# Altium schematic symbol library WRIS-RSKS.SchLib: 516 symbols (part 7 of 10)
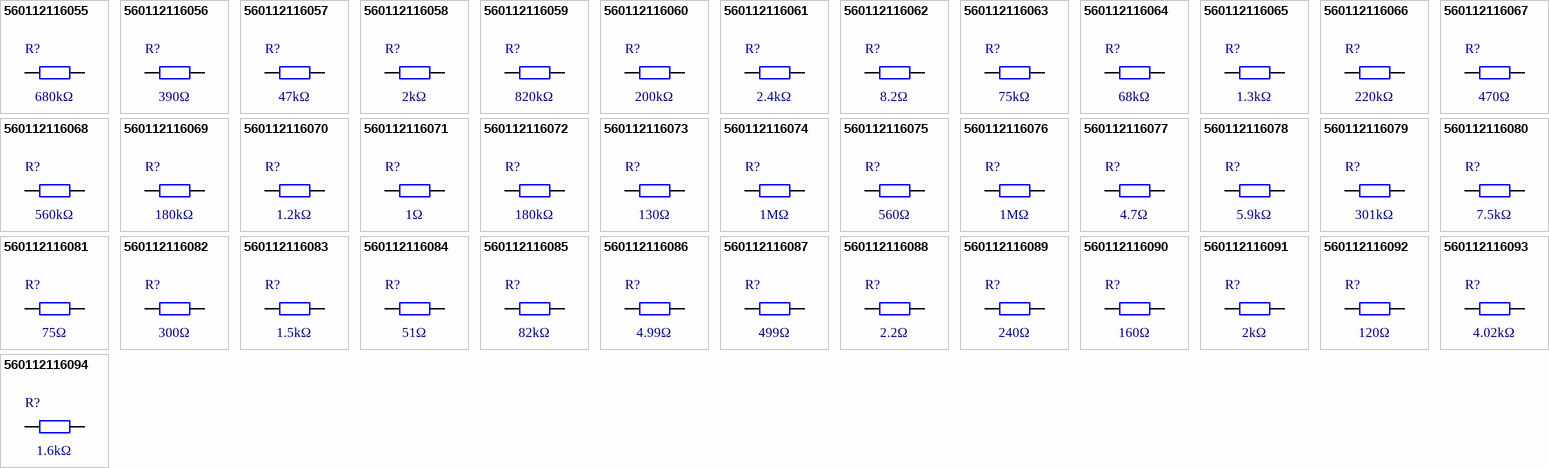
[diagram p18: symbols 560112116055 to 560112116094]

## 560112116063
designator R?, comment 75kΩ
WRIS-RSKS Thick Film Resistor, size 0603, 75kΩ, +/-1%, 100mW; Manufacturer Part Number: 560112116063; Manufacturer: Wurth Elektronik; Case/Size Code: 0603; Limiting Element Voltage: 75V; Temperature Coefficient of Resistance Min: -100ppm/°C; Temperature Coefficient of Resistance Max: 100ppm/°C; Category: Thick Film Resistors; Match Code: WRIS-RSKS; ComponentLink1Description: Website Link; ComponentLink1URL: https://www.we-online.com/redexpert/article/560112116063?ad; ComponentLink2Description: Datasheet Link; ComponentLink2URL: https://www.we-online.com/redexpert/spec/560112116063?ad; Mount: Surface Mount; Min Operating Temperature: -55°C; Max Operating Temperature: 155°C; Packaging: Tape and Reel; Length: 1.6mm; Width: 0.8mm; Height: 0.45mm; Rated Power: 100mW; Resistance: 75kΩ; Resistance Tolerance: +/-1%
footprint WRIS-RSKS_0603_Reflow
footprint WRIS-RSKS_0603_Wave
pins: 1, 2

## 560112116064
designator R?, comment 68kΩ
WRIS-RSKS Thick Film Resistor, size 0603, 68kΩ, +/-1%, 100mW; Manufacturer Part Number: 560112116064; Manufacturer: Wurth Elektronik; Case/Size Code: 0603; Limiting Element Voltage: 75V; Temperature Coefficient of Resistance Min: -100ppm/°C; Temperature Coefficient of Resistance Max: 100ppm/°C; Category: Thick Film Resistors; Match Code: WRIS-RSKS; ComponentLink1Description: Website Link; ComponentLink1URL: https://www.we-online.com/redexpert/article/560112116064?ad; ComponentLink2Description: Datasheet Link; ComponentLink2URL: https://www.we-online.com/redexpert/spec/560112116064?ad; Mount: Surface Mount; Min Operating Temperature: -55°C; Max Operating Temperature: 155°C; Packaging: Tape and Reel; Length: 1.6mm; Width: 0.8mm; Height: 0.45mm; Rated Power: 100mW; Resistance: 68kΩ; Resistance Tolerance: +/-1%
footprint WRIS-RSKS_0603_Reflow
footprint WRIS-RSKS_0603_Wave
pins: 1, 2

## 560112116065
designator R?, comment 1.3kΩ
WRIS-RSKS Thick Film Resistor, size 0603, 1.3kΩ, +/-1%, 100mW; Manufacturer Part Number: 560112116065; Manufacturer: Wurth Elektronik; Case/Size Code: 0603; Limiting Element Voltage: 75V; Temperature Coefficient of Resistance Min: -100ppm/°C; Temperature Coefficient of Resistance Max: 100ppm/°C; Category: Thick Film Resistors; Match Code: WRIS-RSKS; ComponentLink1Description: Website Link; ComponentLink1URL: https://www.we-online.com/redexpert/article/560112116065?ad; ComponentLink2Description: Datasheet Link; ComponentLink2URL: https://www.we-online.com/redexpert/spec/560112116065?ad; Mount: Surface Mount; Min Operating Temperature: -55°C; Max Operating Temperature: 155°C; Packaging: Tape and Reel; Length: 1.6mm; Width: 0.8mm; Height: 0.45mm; Rated Power: 100mW; Resistance: 1.3kΩ; Resistance Tolerance: +/-1%
footprint WRIS-RSKS_0603_Reflow
footprint WRIS-RSKS_0603_Wave
pins: 1, 2

## 560112116066
designator R?, comment 220kΩ
WRIS-RSKS Thick Film Resistor, size 0603, 220kΩ, +/-1%, 100mW; Manufacturer Part Number: 560112116066; Manufacturer: Wurth Elektronik; Case/Size Code: 0603; Limiting Element Voltage: 75V; Temperature Coefficient of Resistance Min: -100ppm/°C; Temperature Coefficient of Resistance Max: 100ppm/°C; Category: Thick Film Resistors; Match Code: WRIS-RSKS; ComponentLink1Description: Website Link; ComponentLink1URL: https://www.we-online.com/redexpert/article/560112116066?ad; ComponentLink2Description: Datasheet Link; ComponentLink2URL: https://www.we-online.com/redexpert/spec/560112116066?ad; Mount: Surface Mount; Min Operating Temperature: -55°C; Max Operating Temperature: 155°C; Packaging: Tape and Reel; Length: 1.6mm; Width: 0.8mm; Height: 0.45mm; Rated Power: 100mW; Resistance: 220kΩ; Resistance Tolerance: +/-1%
footprint WRIS-RSKS_0603_Reflow
footprint WRIS-RSKS_0603_Wave
pins: 1, 2

## 560112116067
designator R?, comment 470Ω
WRIS-RSKS Thick Film Resistor, size 0603, 470Ω, +/-1%, 100mW; Manufacturer Part Number: 560112116067; Manufacturer: Wurth Elektronik; Case/Size Code: 0603; Limiting Element Voltage: 75V; Temperature Coefficient of Resistance Min: -100ppm/°C; Temperature Coefficient of Resistance Max: 100ppm/°C; Category: Thick Film Resistors; Match Code: WRIS-RSKS; ComponentLink1Description: Website Link; ComponentLink1URL: https://www.we-online.com/redexpert/article/560112116067?ad; ComponentLink2Description: Datasheet Link; ComponentLink2URL: https://www.we-online.com/redexpert/spec/560112116067?ad; Mount: Surface Mount; Min Operating Temperature: -55°C; Max Operating Temperature: 155°C; Packaging: Tape and Reel; Length: 1.6mm; Width: 0.8mm; Height: 0.45mm; Rated Power: 100mW; Resistance: 470Ω; Resistance Tolerance: +/-1%
footprint WRIS-RSKS_0603_Reflow
footprint WRIS-RSKS_0603_Wave
pins: 1, 2

## 560112116068
designator R?, comment 560kΩ
WRIS-RSKS Thick Film Resistor, size 0603, 560kΩ, +/-1%, 100mW; Manufacturer Part Number: 560112116068; Manufacturer: Wurth Elektronik; Case/Size Code: 0603; Limiting Element Voltage: 75V; Temperature Coefficient of Resistance Min: -100ppm/°C; Temperature Coefficient of Resistance Max: 100ppm/°C; Category: Thick Film Resistors; Match Code: WRIS-RSKS; ComponentLink1Description: Website Link; ComponentLink1URL: https://www.we-online.com/redexpert/article/560112116068?ad; ComponentLink2Description: Datasheet Link; ComponentLink2URL: https://www.we-online.com/redexpert/spec/560112116068?ad; Mount: Surface Mount; Min Operating Temperature: -55°C; Max Operating Temperature: 155°C; Packaging: Tape and Reel; Length: 1.6mm; Width: 0.8mm; Height: 0.45mm; Rated Power: 100mW; Resistance: 560kΩ; Resistance Tolerance: +/-1%
footprint WRIS-RSKS_0603_Reflow
footprint WRIS-RSKS_0603_Wave
pins: 1, 2

## 560112116069
designator R?, comment 180kΩ
WRIS-RSKS Thick Film Resistor, size 0603, 180kΩ, +/-5%, 100mW; Manufacturer Part Number: 560112116069; Manufacturer: Wurth Elektronik; Case/Size Code: 0603; Limiting Element Voltage: 75V; Temperature Coefficient of Resistance Min: -100ppm/°C; Temperature Coefficient of Resistance Max: 100ppm/°C; Category: Thick Film Resistors; Match Code: WRIS-RSKS; ComponentLink1Description: Website Link; ComponentLink1URL: https://www.we-online.com/redexpert/article/560112116069?ad; ComponentLink2Description: Datasheet Link; ComponentLink2URL: https://www.we-online.com/redexpert/spec/560112116069?ad; Mount: Surface Mount; Min Operating Temperature: -55°C; Max Operating Temperature: 155°C; Packaging: Tape and Reel; Length: 1.6mm; Width: 0.8mm; Height: 0.45mm; Rated Power: 100mW; Resistance: 180kΩ; Resistance Tolerance: +/-5%
footprint WRIS-RSKS_0603_Reflow
footprint WRIS-RSKS_0603_Wave
pins: 1, 2

## 560112116070
designator R?, comment 1.2kΩ
WRIS-RSKS Thick Film Resistor, size 0603, 1.2kΩ, +/-1%, 100mW; Manufacturer Part Number: 560112116070; Manufacturer: Wurth Elektronik; Case/Size Code: 0603; Limiting Element Voltage: 75V; Temperature Coefficient of Resistance Min: -100ppm/°C; Temperature Coefficient of Resistance Max: 100ppm/°C; Category: Thick Film Resistors; Match Code: WRIS-RSKS; ComponentLink1Description: Website Link; ComponentLink1URL: https://www.we-online.com/redexpert/article/560112116070?ad; ComponentLink2Description: Datasheet Link; ComponentLink2URL: https://www.we-online.com/redexpert/spec/560112116070?ad; Mount: Surface Mount; Min Operating Temperature: -55°C; Max Operating Temperature: 155°C; Packaging: Tape and Reel; Length: 1.6mm; Width: 0.8mm; Height: 0.45mm; Rated Power: 100mW; Resistance: 1.2kΩ; Resistance Tolerance: +/-1%
footprint WRIS-RSKS_0603_Reflow
footprint WRIS-RSKS_0603_Wave
pins: 1, 2

## 560112116071
designator R?, comment 1Ω
WRIS-RSKS Thick Film Resistor, size 0603, 1Ω, +/-1%, 100mW; Manufacturer Part Number: 560112116071; Manufacturer: Wurth Elektronik; Case/Size Code: 0603; Limiting Element Voltage: 75V; Temperature Coefficient of Resistance Min: -200ppm/°C; Temperature Coefficient of Resistance Max: 400ppm/°C; Category: Thick Film Resistors; Match Code: WRIS-RSKS; ComponentLink1Description: Website Link; ComponentLink1URL: https://www.we-online.com/redexpert/article/560112116071?ad; ComponentLink2Description: Datasheet Link; ComponentLink2URL: https://www.we-online.com/redexpert/spec/560112116071?ad; Mount: Surface Mount; Min Operating Temperature: -55°C; Max Operating Temperature: 155°C; Packaging: Tape and Reel; Length: 1.6mm; Width: 0.8mm; Height: 0.45mm; Rated Power: 100mW; Resistance: 1Ω; Resistance Tolerance: +/-1%
footprint WRIS-RSKS_0603_Reflow
footprint WRIS-RSKS_0603_Wave
pins: 1, 2

## 560112116072
designator R?, comment 180kΩ
WRIS-RSKS Thick Film Resistor, size 0603, 180kΩ, +/-1%, 100mW; Manufacturer Part Number: 560112116072; Manufacturer: Wurth Elektronik; Case/Size Code: 0603; Limiting Element Voltage: 75V; Temperature Coefficient of Resistance Min: -100ppm/°C; Temperature Coefficient of Resistance Max: 100ppm/°C; Category: Thick Film Resistors; Match Code: WRIS-RSKS; ComponentLink1Description: Website Link; ComponentLink1URL: https://www.we-online.com/redexpert/article/560112116072?ad; ComponentLink2Description: Datasheet Link; ComponentLink2URL: https://www.we-online.com/redexpert/spec/560112116072?ad; Mount: Surface Mount; Min Operating Temperature: -55°C; Max Operating Temperature: 155°C; Packaging: Tape and Reel; Length: 1.6mm; Width: 0.8mm; Height: 0.45mm; Rated Power: 100mW; Resistance: 180kΩ; Resistance Tolerance: +/-1%
footprint WRIS-RSKS_0603_Reflow
footprint WRIS-RSKS_0603_Wave
pins: 1, 2

## 560112116073
designator R?, comment 130Ω
WRIS-RSKS Thick Film Resistor, size 0603, 130Ω, +/-1%, 100mW; Manufacturer Part Number: 560112116073; Manufacturer: Wurth Elektronik; Case/Size Code: 0603; Limiting Element Voltage: 75V; Temperature Coefficient of Resistance Min: -100ppm/°C; Temperature Coefficient of Resistance Max: 100ppm/°C; Category: Thick Film Resistors; Match Code: WRIS-RSKS; ComponentLink1Description: Website Link; ComponentLink1URL: https://www.we-online.com/redexpert/article/560112116073?ad; ComponentLink2Description: Datasheet Link; ComponentLink2URL: https://www.we-online.com/redexpert/spec/560112116073?ad; Mount: Surface Mount; Min Operating Temperature: -55°C; Max Operating Temperature: 155°C; Packaging: Tape and Reel; Length: 1.6mm; Width: 0.8mm; Height: 0.45mm; Rated Power: 100mW; Resistance: 130Ω; Resistance Tolerance: +/-1%
footprint WRIS-RSKS_0603_Reflow
footprint WRIS-RSKS_0603_Wave
pins: 1, 2

## 560112116074
designator R?, comment 1MΩ
WRIS-RSKS Thick Film Resistor, size 0603, 1MΩ, +/-1%, 100mW; Manufacturer Part Number: 560112116074; Manufacturer: Wurth Elektronik; Case/Size Code: 0603; Limiting Element Voltage: 75V; Temperature Coefficient of Resistance Min: -100ppm/°C; Temperature Coefficient of Resistance Max: 100ppm/°C; Category: Thick Film Resistors; Match Code: WRIS-RSKS; ComponentLink1Description: Website Link; ComponentLink1URL: https://www.we-online.com/redexpert/article/560112116074?ad; ComponentLink2Description: Datasheet Link; ComponentLink2URL: https://www.we-online.com/redexpert/spec/560112116074?ad; Mount: Surface Mount; Min Operating Temperature: -55°C; Max Operating Temperature: 155°C; Packaging: Tape and Reel; Length: 1.6mm; Width: 0.8mm; Height: 0.45mm; Rated Power: 100mW; Resistance: 1MΩ; Resistance Tolerance: +/-1%
footprint WRIS-RSKS_0603_Reflow
footprint WRIS-RSKS_0603_Wave
pins: 1, 2

## 560112116075
designator R?, comment 560Ω
WRIS-RSKS Thick Film Resistor, size 0603, 560Ω, +/-5%, 100mW; Manufacturer Part Number: 560112116075; Manufacturer: Wurth Elektronik; Case/Size Code: 0603; Limiting Element Voltage: 75V; Temperature Coefficient of Resistance Min: -100ppm/°C; Temperature Coefficient of Resistance Max: 100ppm/°C; Category: Thick Film Resistors; Match Code: WRIS-RSKS; ComponentLink1Description: Website Link; ComponentLink1URL: https://www.we-online.com/redexpert/article/560112116075?ad; ComponentLink2Description: Datasheet Link; ComponentLink2URL: https://www.we-online.com/redexpert/spec/560112116075?ad; Mount: Surface Mount; Min Operating Temperature: -55°C; Max Operating Temperature: 155°C; Packaging: Tape and Reel; Length: 1.6mm; Width: 0.8mm; Height: 0.45mm; Rated Power: 100mW; Resistance: 560Ω; Resistance Tolerance: +/-5%
footprint WRIS-RSKS_0603_Reflow
footprint WRIS-RSKS_0603_Wave
pins: 1, 2

## 560112116076
designator R?, comment 1MΩ
WRIS-RSKS Thick Film Resistor, size 0603, 1MΩ, +/-5%, 100mW; Manufacturer Part Number: 560112116076; Manufacturer: Wurth Elektronik; Case/Size Code: 0603; Limiting Element Voltage: 75V; Temperature Coefficient of Resistance Min: -100ppm/°C; Temperature Coefficient of Resistance Max: 100ppm/°C; Category: Thick Film Resistors; Match Code: WRIS-RSKS; ComponentLink1Description: Website Link; ComponentLink1URL: https://www.we-online.com/redexpert/article/560112116076?ad; ComponentLink2Description: Datasheet Link; ComponentLink2URL: https://www.we-online.com/redexpert/spec/560112116076?ad; Mount: Surface Mount; Min Operating Temperature: -55°C; Max Operating Temperature: 155°C; Packaging: Tape and Reel; Length: 1.6mm; Width: 0.8mm; Height: 0.45mm; Rated Power: 100mW; Resistance: 1MΩ; Resistance Tolerance: +/-5%
footprint WRIS-RSKS_0603_Reflow
footprint WRIS-RSKS_0603_Wave
pins: 1, 2

## 560112116077
designator R?, comment 4.7Ω
WRIS-RSKS Thick Film Resistor, size 0603, 4.7Ω, +/-5%, 100mW; Manufacturer Part Number: 560112116077; Manufacturer: Wurth Elektronik; Case/Size Code: 0603; Limiting Element Voltage: 75V; Temperature Coefficient of Resistance Min: -200ppm/°C; Temperature Coefficient of Resistance Max: 400ppm/°C; Category: Thick Film Resistors; Match Code: WRIS-RSKS; ComponentLink1Description: Website Link; ComponentLink1URL: https://www.we-online.com/redexpert/article/560112116077?ad; ComponentLink2Description: Datasheet Link; ComponentLink2URL: https://www.we-online.com/redexpert/spec/560112116077?ad; Mount: Surface Mount; Min Operating Temperature: -55°C; Max Operating Temperature: 155°C; Packaging: Tape and Reel; Length: 1.6mm; Width: 0.8mm; Height: 0.45mm; Rated Power: 100mW; Resistance: 4.7Ω; Resistance Tolerance: +/-5%
footprint WRIS-RSKS_0603_Reflow
footprint WRIS-RSKS_0603_Wave
pins: 1, 2

## 560112116078
designator R?, comment 5.9kΩ
WRIS-RSKS Thick Film Resistor, size 0603, 5.9kΩ, +/-1%, 100mW; Manufacturer Part Number: 560112116078; Manufacturer: Wurth Elektronik; Case/Size Code: 0603; Limiting Element Voltage: 75V; Temperature Coefficient of Resistance Min: -100ppm/°C; Temperature Coefficient of Resistance Max: 100ppm/°C; Category: Thick Film Resistors; Match Code: WRIS-RSKS; ComponentLink1Description: Website Link; ComponentLink1URL: https://www.we-online.com/redexpert/article/560112116078?ad; ComponentLink2Description: Datasheet Link; ComponentLink2URL: https://www.we-online.com/redexpert/spec/560112116078?ad; Mount: Surface Mount; Min Operating Temperature: -55°C; Max Operating Temperature: 155°C; Packaging: Tape and Reel; Length: 1.6mm; Width: 0.8mm; Height: 0.45mm; Rated Power: 100mW; Resistance: 5.9kΩ; Resistance Tolerance: +/-1%
footprint WRIS-RSKS_0603_Reflow
footprint WRIS-RSKS_0603_Wave
pins: 1, 2

## 560112116079
designator R?, comment 301kΩ
WRIS-RSKS Thick Film Resistor, size 0603, 301kΩ, +/-1%, 100mW; Manufacturer Part Number: 560112116079; Manufacturer: Wurth Elektronik; Case/Size Code: 0603; Limiting Element Voltage: 75V; Temperature Coefficient of Resistance Min: -100ppm/°C; Temperature Coefficient of Resistance Max: 100ppm/°C; Category: Thick Film Resistors; Match Code: WRIS-RSKS; ComponentLink1Description: Website Link; ComponentLink1URL: https://www.we-online.com/redexpert/article/560112116079?ad; ComponentLink2Description: Datasheet Link; ComponentLink2URL: https://www.we-online.com/redexpert/spec/560112116079?ad; Mount: Surface Mount; Min Operating Temperature: -55°C; Max Operating Temperature: 155°C; Packaging: Tape and Reel; Length: 1.6mm; Width: 0.8mm; Height: 0.45mm; Rated Power: 100mW; Resistance: 301kΩ; Resistance Tolerance: +/-1%
footprint WRIS-RSKS_0603_Reflow
footprint WRIS-RSKS_0603_Wave
pins: 1, 2

## 560112116080
designator R?, comment 7.5kΩ
WRIS-RSKS Thick Film Resistor, size 0603, 7.5kΩ, +/-1%, 100mW; Manufacturer Part Number: 560112116080; Manufacturer: Wurth Elektronik; Case/Size Code: 0603; Limiting Element Voltage: 75V; Temperature Coefficient of Resistance Min: -100ppm/°C; Temperature Coefficient of Resistance Max: 100ppm/°C; Category: Thick Film Resistors; Match Code: WRIS-RSKS; ComponentLink1Description: Website Link; ComponentLink1URL: https://www.we-online.com/redexpert/article/560112116080?ad; ComponentLink2Description: Datasheet Link; ComponentLink2URL: https://www.we-online.com/redexpert/spec/560112116080?ad; Mount: Surface Mount; Min Operating Temperature: -55°C; Max Operating Temperature: 155°C; Packaging: Tape and Reel; Length: 1.6mm; Width: 0.8mm; Height: 0.45mm; Rated Power: 100mW; Resistance: 7.5kΩ; Resistance Tolerance: +/-1%
footprint WRIS-RSKS_0603_Reflow
footprint WRIS-RSKS_0603_Wave
pins: 1, 2

## 560112116081
designator R?, comment 75Ω
WRIS-RSKS Thick Film Resistor, size 0603, 75Ω, +/-5%, 100mW; Manufacturer Part Number: 560112116081; Manufacturer: Wurth Elektronik; Case/Size Code: 0603; Limiting Element Voltage: 75V; Temperature Coefficient of Resistance Min: -100ppm/°C; Temperature Coefficient of Resistance Max: 100ppm/°C; Category: Thick Film Resistors; Match Code: WRIS-RSKS; ComponentLink1Description: Website Link; ComponentLink1URL: https://www.we-online.com/redexpert/article/560112116081?ad; ComponentLink2Description: Datasheet Link; ComponentLink2URL: https://www.we-online.com/redexpert/spec/560112116081?ad; Mount: Surface Mount; Min Operating Temperature: -55°C; Max Operating Temperature: 155°C; Packaging: Tape and Reel; Length: 1.6mm; Width: 0.8mm; Height: 0.45mm; Rated Power: 100mW; Resistance: 75Ω; Resistance Tolerance: +/-5%
footprint WRIS-RSKS_0603_Reflow
footprint WRIS-RSKS_0603_Wave
pins: 1, 2

## 560112116082
designator R?, comment 300Ω
WRIS-RSKS Thick Film Resistor, size 0603, 300Ω, +/-5%, 100mW; Manufacturer Part Number: 560112116082; Manufacturer: Wurth Elektronik; Case/Size Code: 0603; Limiting Element Voltage: 75V; Temperature Coefficient of Resistance Min: -100ppm/°C; Temperature Coefficient of Resistance Max: 100ppm/°C; Category: Thick Film Resistors; Match Code: WRIS-RSKS; ComponentLink1Description: Website Link; ComponentLink1URL: https://www.we-online.com/redexpert/article/560112116082?ad; ComponentLink2Description: Datasheet Link; ComponentLink2URL: https://www.we-online.com/redexpert/spec/560112116082?ad; Mount: Surface Mount; Min Operating Temperature: -55°C; Max Operating Temperature: 155°C; Packaging: Tape and Reel; Length: 1.6mm; Width: 0.8mm; Height: 0.45mm; Rated Power: 100mW; Resistance: 300Ω; Resistance Tolerance: +/-5%
footprint WRIS-RSKS_0603_Reflow
footprint WRIS-RSKS_0603_Wave
pins: 1, 2

## 560112116083
designator R?, comment 1.5kΩ
WRIS-RSKS Thick Film Resistor, size 0603, 1.5kΩ, +/-5%, 100mW; Manufacturer Part Number: 560112116083; Manufacturer: Wurth Elektronik; Case/Size Code: 0603; Limiting Element Voltage: 75V; Temperature Coefficient of Resistance Min: -100ppm/°C; Temperature Coefficient of Resistance Max: 100ppm/°C; Category: Thick Film Resistors; Match Code: WRIS-RSKS; ComponentLink1Description: Website Link; ComponentLink1URL: https://www.we-online.com/redexpert/article/560112116083?ad; ComponentLink2Description: Datasheet Link; ComponentLink2URL: https://www.we-online.com/redexpert/spec/560112116083?ad; Mount: Surface Mount; Min Operating Temperature: -55°C; Max Operating Temperature: 155°C; Packaging: Tape and Reel; Length: 1.6mm; Width: 0.8mm; Height: 0.45mm; Rated Power: 100mW; Resistance: 1.5kΩ; Resistance Tolerance: +/-5%
footprint WRIS-RSKS_0603_Reflow
footprint WRIS-RSKS_0603_Wave
pins: 1, 2

## 560112116084
designator R?, comment 51Ω
WRIS-RSKS Thick Film Resistor, size 0603, 51Ω, +/-5%, 100mW; Manufacturer Part Number: 560112116084; Manufacturer: Wurth Elektronik; Case/Size Code: 0603; Limiting Element Voltage: 75V; Temperature Coefficient of Resistance Min: -100ppm/°C; Temperature Coefficient of Resistance Max: 100ppm/°C; Category: Thick Film Resistors; Match Code: WRIS-RSKS; ComponentLink1Description: Website Link; ComponentLink1URL: https://www.we-online.com/redexpert/article/560112116084?ad; ComponentLink2Description: Datasheet Link; ComponentLink2URL: https://www.we-online.com/redexpert/spec/560112116084?ad; Mount: Surface Mount; Min Operating Temperature: -55°C; Max Operating Temperature: 155°C; Packaging: Tape and Reel; Length: 1.6mm; Width: 0.8mm; Height: 0.45mm; Rated Power: 100mW; Resistance: 51Ω; Resistance Tolerance: +/-5%
footprint WRIS-RSKS_0603_Reflow
footprint WRIS-RSKS_0603_Wave
pins: 1, 2

## 560112116085
designator R?, comment 82kΩ
WRIS-RSKS Thick Film Resistor, size 0603, 82kΩ, +/-1%, 100mW; Manufacturer Part Number: 560112116085; Manufacturer: Wurth Elektronik; Case/Size Code: 0603; Limiting Element Voltage: 75V; Temperature Coefficient of Resistance Min: -100ppm/°C; Temperature Coefficient of Resistance Max: 100ppm/°C; Category: Thick Film Resistors; Match Code: WRIS-RSKS; ComponentLink1Description: Website Link; ComponentLink1URL: https://www.we-online.com/redexpert/article/560112116085?ad; ComponentLink2Description: Datasheet Link; ComponentLink2URL: https://www.we-online.com/redexpert/spec/560112116085?ad; Mount: Surface Mount; Min Operating Temperature: -55°C; Max Operating Temperature: 155°C; Packaging: Tape and Reel; Length: 1.6mm; Width: 0.8mm; Height: 0.45mm; Rated Power: 100mW; Resistance: 82kΩ; Resistance Tolerance: +/-1%
footprint WRIS-RSKS_0603_Reflow
footprint WRIS-RSKS_0603_Wave
pins: 1, 2

## 560112116086
designator R?, comment 4.99Ω
WRIS-RSKS Thick Film Resistor, size 0603, 4.99Ω, +/-1%, 100mW; Manufacturer Part Number: 560112116086; Manufacturer: Wurth Elektronik; Case/Size Code: 0603; Limiting Element Voltage: 75V; Temperature Coefficient of Resistance Min: -200ppm/°C; Temperature Coefficient of Resistance Max: 400ppm/°C; Category: Thick Film Resistors; Match Code: WRIS-RSKS; ComponentLink1Description: Website Link; ComponentLink1URL: https://www.we-online.com/redexpert/article/560112116086?ad; ComponentLink2Description: Datasheet Link; ComponentLink2URL: https://www.we-online.com/redexpert/spec/560112116086?ad; Mount: Surface Mount; Min Operating Temperature: -55°C; Max Operating Temperature: 155°C; Packaging: Tape and Reel; Length: 1.6mm; Width: 0.8mm; Height: 0.45mm; Rated Power: 100mW; Resistance: 4.99Ω; Resistance Tolerance: +/-1%
footprint WRIS-RSKS_0603_Reflow
footprint WRIS-RSKS_0603_Wave
pins: 1, 2

## 560112116087
designator R?, comment 499Ω
WRIS-RSKS Thick Film Resistor, size 0603, 499Ω, +/-1%, 100mW; Manufacturer Part Number: 560112116087; Manufacturer: Wurth Elektronik; Case/Size Code: 0603; Limiting Element Voltage: 75V; Temperature Coefficient of Resistance Min: -100ppm/°C; Temperature Coefficient of Resistance Max: 100ppm/°C; Category: Thick Film Resistors; Match Code: WRIS-RSKS; ComponentLink1Description: Website Link; ComponentLink1URL: https://www.we-online.com/redexpert/article/560112116087?ad; ComponentLink2Description: Datasheet Link; ComponentLink2URL: https://www.we-online.com/redexpert/spec/560112116087?ad; Mount: Surface Mount; Min Operating Temperature: -55°C; Max Operating Temperature: 155°C; Packaging: Tape and Reel; Length: 1.6mm; Width: 0.8mm; Height: 0.45mm; Rated Power: 100mW; Resistance: 499Ω; Resistance Tolerance: +/-1%
footprint WRIS-RSKS_0603_Reflow
footprint WRIS-RSKS_0603_Wave
pins: 1, 2

## 560112116088
designator R?, comment 2.2Ω
WRIS-RSKS Thick Film Resistor, size 0603, 2.2Ω, +/-1%, 100mW; Manufacturer Part Number: 560112116088; Manufacturer: Wurth Elektronik; Case/Size Code: 0603; Limiting Element Voltage: 75V; Temperature Coefficient of Resistance Min: -200ppm/°C; Temperature Coefficient of Resistance Max: 400ppm/°C; Category: Thick Film Resistors; Match Code: WRIS-RSKS; ComponentLink1Description: Website Link; ComponentLink1URL: https://www.we-online.com/redexpert/article/560112116088?ad; ComponentLink2Description: Datasheet Link; ComponentLink2URL: https://www.we-online.com/redexpert/spec/560112116088?ad; Mount: Surface Mount; Min Operating Temperature: -55°C; Max Operating Temperature: 155°C; Packaging: Tape and Reel; Length: 1.6mm; Width: 0.8mm; Height: 0.45mm; Rated Power: 100mW; Resistance: 2.2Ω; Resistance Tolerance: +/-1%
footprint WRIS-RSKS_0603_Reflow
footprint WRIS-RSKS_0603_Wave
pins: 1, 2

## 560112116089
designator R?, comment 240Ω
WRIS-RSKS Thick Film Resistor, size 0603, 240Ω, +/-1%, 100mW; Manufacturer Part Number: 560112116089; Manufacturer: Wurth Elektronik; Case/Size Code: 0603; Limiting Element Voltage: 75V; Temperature Coefficient of Resistance Min: -100ppm/°C; Temperature Coefficient of Resistance Max: 100ppm/°C; Category: Thick Film Resistors; Match Code: WRIS-RSKS; ComponentLink1Description: Website Link; ComponentLink1URL: https://www.we-online.com/redexpert/article/560112116089?ad; ComponentLink2Description: Datasheet Link; ComponentLink2URL: https://www.we-online.com/redexpert/spec/560112116089?ad; Mount: Surface Mount; Min Operating Temperature: -55°C; Max Operating Temperature: 155°C; Packaging: Tape and Reel; Length: 1.6mm; Width: 0.8mm; Height: 0.45mm; Rated Power: 100mW; Resistance: 240Ω; Resistance Tolerance: +/-1%
footprint WRIS-RSKS_0603_Reflow
footprint WRIS-RSKS_0603_Wave
pins: 1, 2

## 560112116090
designator R?, comment 160Ω
WRIS-RSKS Thick Film Resistor, size 0603, 160Ω, +/-5%, 100mW; Manufacturer Part Number: 560112116090; Manufacturer: Wurth Elektronik; Case/Size Code: 0603; Limiting Element Voltage: 75V; Temperature Coefficient of Resistance Min: -100ppm/°C; Temperature Coefficient of Resistance Max: 100ppm/°C; Category: Thick Film Resistors; Match Code: WRIS-RSKS; ComponentLink1Description: Website Link; ComponentLink1URL: https://www.we-online.com/redexpert/article/560112116090?ad; ComponentLink2Description: Datasheet Link; ComponentLink2URL: https://www.we-online.com/redexpert/spec/560112116090?ad; Mount: Surface Mount; Min Operating Temperature: -55°C; Max Operating Temperature: 155°C; Packaging: Tape and Reel; Length: 1.6mm; Width: 0.8mm; Height: 0.45mm; Rated Power: 100mW; Resistance: 160Ω; Resistance Tolerance: +/-5%
footprint WRIS-RSKS_0603_Reflow
footprint WRIS-RSKS_0603_Wave
pins: 1, 2

## 560112116091
designator R?, comment 2kΩ
WRIS-RSKS Thick Film Resistor, size 0603, 2kΩ, +/-1%, 100mW; Manufacturer Part Number: 560112116091; Manufacturer: Wurth Elektronik; Case/Size Code: 0603; Limiting Element Voltage: 75V; Temperature Coefficient of Resistance Min: -100ppm/°C; Temperature Coefficient of Resistance Max: 100ppm/°C; Category: Thick Film Resistors; Match Code: WRIS-RSKS; ComponentLink1Description: Website Link; ComponentLink1URL: https://www.we-online.com/redexpert/article/560112116091?ad; ComponentLink2Description: Datasheet Link; ComponentLink2URL: https://www.we-online.com/redexpert/spec/560112116091?ad; Mount: Surface Mount; Min Operating Temperature: -55°C; Max Operating Temperature: 155°C; Packaging: Tape and Reel; Length: 1.6mm; Width: 0.8mm; Height: 0.45mm; Rated Power: 100mW; Resistance: 2kΩ; Resistance Tolerance: +/-1%
footprint WRIS-RSKS_0603_Reflow
footprint WRIS-RSKS_0603_Wave
pins: 1, 2

## 560112116092
designator R?, comment 120Ω
WRIS-RSKS Thick Film Resistor, size 0603, 120Ω, +/-5%, 100mW; Manufacturer Part Number: 560112116092; Manufacturer: Wurth Elektronik; Case/Size Code: 0603; Limiting Element Voltage: 75V; Temperature Coefficient of Resistance Min: -100ppm/°C; Temperature Coefficient of Resistance Max: 100ppm/°C; Category: Thick Film Resistors; Match Code: WRIS-RSKS; ComponentLink1Description: Website Link; ComponentLink1URL: https://www.we-online.com/redexpert/article/560112116092?ad; ComponentLink2Description: Datasheet Link; ComponentLink2URL: https://www.we-online.com/redexpert/spec/560112116092?ad; Mount: Surface Mount; Min Operating Temperature: -55°C; Max Operating Temperature: 155°C; Packaging: Tape and Reel; Length: 1.6mm; Width: 0.8mm; Height: 0.45mm; Rated Power: 100mW; Resistance: 120Ω; Resistance Tolerance: +/-5%
footprint WRIS-RSKS_0603_Reflow
footprint WRIS-RSKS_0603_Wave
pins: 1, 2

## 560112116093
designator R?, comment 4.02kΩ
WRIS-RSKS Thick Film Resistor, size 0603, 4.02kΩ, +/-1%, 100mW; Manufacturer Part Number: 560112116093; Manufacturer: Wurth Elektronik; Case/Size Code: 0603; Limiting Element Voltage: 75V; Temperature Coefficient of Resistance Min: -100ppm/°C; Temperature Coefficient of Resistance Max: 100ppm/°C; Category: Thick Film Resistors; Match Code: WRIS-RSKS; ComponentLink1Description: Website Link; ComponentLink1URL: https://www.we-online.com/redexpert/article/560112116093?ad; ComponentLink2Description: Datasheet Link; ComponentLink2URL: https://www.we-online.com/redexpert/spec/560112116093?ad; Mount: Surface Mount; Min Operating Temperature: -55°C; Max Operating Temperature: 155°C; Packaging: Tape and Reel; Length: 1.6mm; Width: 0.8mm; Height: 0.45mm; Rated Power: 100mW; Resistance: 4.02kΩ; Resistance Tolerance: +/-1%
footprint WRIS-RSKS_0603_Reflow
footprint WRIS-RSKS_0603_Wave
pins: 1, 2

## 560112116094
designator R?, comment 1.6kΩ
WRIS-RSKS Thick Film Resistor, size 0603, 1.6kΩ, +/-1%, 100mW; Manufacturer Part Number: 560112116094; Manufacturer: Wurth Elektronik; Case/Size Code: 0603; Limiting Element Voltage: 75V; Temperature Coefficient of Resistance Min: -100ppm/°C; Temperature Coefficient of Resistance Max: 100ppm/°C; Category: Thick Film Resistors; Match Code: WRIS-RSKS; ComponentLink1Description: Website Link; ComponentLink1URL: https://www.we-online.com/redexpert/article/560112116094?ad; ComponentLink2Description: Datasheet Link; ComponentLink2URL: https://www.we-online.com/redexpert/spec/560112116094?ad; Mount: Surface Mount; Min Operating Temperature: -55°C; Max Operating Temperature: 155°C; Packaging: Tape and Reel; Length: 1.6mm; Width: 0.8mm; Height: 0.45mm; Rated Power: 100mW; Resistance: 1.6kΩ; Resistance Tolerance: +/-1%
footprint WRIS-RSKS_0603_Reflow
footprint WRIS-RSKS_0603_Wave
pins: 1, 2

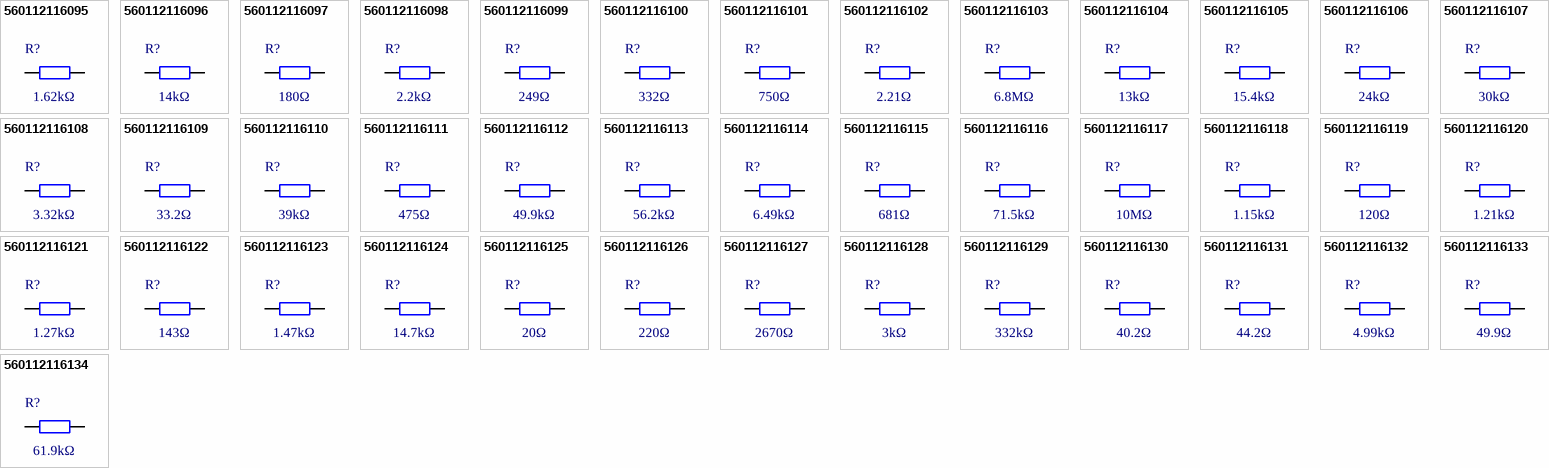
[diagram p9: symbols 560112116095 to 560112116134]

## 560112116095
designator R?, comment 1.62kΩ
WRIS-RSKS Thick Film Resistor, size 0603, 1.62kΩ, +/-1%, 100mW; Manufacturer Part Number: 560112116095; Manufacturer: Wurth Elektronik; Case/Size Code: 0603; Limiting Element Voltage: 75V; Temperature Coefficient of Resistance Min: -100ppm/°C; Temperature Coefficient of Resistance Max: 100ppm/°C; Category: Thick Film Resistors; Match Code: WRIS-RSKS; ComponentLink1Description: Website Link; ComponentLink1URL: https://www.we-online.com/redexpert/article/560112116095?ad; ComponentLink2Description: Datasheet Link; ComponentLink2URL: https://www.we-online.com/redexpert/spec/560112116095?ad; Mount: Surface Mount; Min Operating Temperature: -55°C; Max Operating Temperature: 155°C; Packaging: Tape and Reel; Length: 1.6mm; Width: 0.8mm; Height: 0.45mm; Rated Power: 100mW; Resistance: 1.62kΩ; Resistance Tolerance: +/-1%
footprint WRIS-RSKS_0603_Reflow
footprint WRIS-RSKS_0603_Wave
pins: 1, 2

## 560112116096
designator R?, comment 14kΩ
WRIS-RSKS Thick Film Resistor, size 0603, 14kΩ, +/-1%, 100mW; Manufacturer Part Number: 560112116096; Manufacturer: Wurth Elektronik; Case/Size Code: 0603; Limiting Element Voltage: 75V; Temperature Coefficient of Resistance Min: -100ppm/°C; Temperature Coefficient of Resistance Max: 100ppm/°C; Category: Thick Film Resistors; Match Code: WRIS-RSKS; ComponentLink1Description: Website Link; ComponentLink1URL: https://www.we-online.com/redexpert/article/560112116096?ad; ComponentLink2Description: Datasheet Link; ComponentLink2URL: https://www.we-online.com/redexpert/spec/560112116096?ad; Mount: Surface Mount; Min Operating Temperature: -55°C; Max Operating Temperature: 155°C; Packaging: Tape and Reel; Length: 1.6mm; Width: 0.8mm; Height: 0.45mm; Rated Power: 100mW; Resistance: 14kΩ; Resistance Tolerance: +/-1%
footprint WRIS-RSKS_0603_Reflow
footprint WRIS-RSKS_0603_Wave
pins: 1, 2

## 560112116097
designator R?, comment 180Ω
WRIS-RSKS Thick Film Resistor, size 0603, 180Ω, +/-5%, 100mW; Manufacturer Part Number: 560112116097; Manufacturer: Wurth Elektronik; Case/Size Code: 0603; Limiting Element Voltage: 75V; Temperature Coefficient of Resistance Min: -100ppm/°C; Temperature Coefficient of Resistance Max: 100ppm/°C; Category: Thick Film Resistors; Match Code: WRIS-RSKS; ComponentLink1Description: Website Link; ComponentLink1URL: https://www.we-online.com/redexpert/article/560112116097?ad; ComponentLink2Description: Datasheet Link; ComponentLink2URL: https://www.we-online.com/redexpert/spec/560112116097?ad; Mount: Surface Mount; Min Operating Temperature: -55°C; Max Operating Temperature: 155°C; Packaging: Tape and Reel; Length: 1.6mm; Width: 0.8mm; Height: 0.45mm; Rated Power: 100mW; Resistance: 180Ω; Resistance Tolerance: +/-5%
footprint WRIS-RSKS_0603_Reflow
footprint WRIS-RSKS_0603_Wave
pins: 1, 2

## 560112116098
designator R?, comment 2.2kΩ
WRIS-RSKS Thick Film Resistor, size 0603, 2.2kΩ, +/-1%, 100mW; Manufacturer Part Number: 560112116098; Manufacturer: Wurth Elektronik; Case/Size Code: 0603; Limiting Element Voltage: 75V; Temperature Coefficient of Resistance Min: -100ppm/°C; Temperature Coefficient of Resistance Max: 100ppm/°C; Category: Thick Film Resistors; Match Code: WRIS-RSKS; ComponentLink1Description: Website Link; ComponentLink1URL: https://www.we-online.com/redexpert/article/560112116098?ad; ComponentLink2Description: Datasheet Link; ComponentLink2URL: https://www.we-online.com/redexpert/spec/560112116098?ad; Mount: Surface Mount; Min Operating Temperature: -55°C; Max Operating Temperature: 155°C; Packaging: Tape and Reel; Length: 1.6mm; Width: 0.8mm; Height: 0.45mm; Rated Power: 100mW; Resistance: 2.2kΩ; Resistance Tolerance: +/-1%
footprint WRIS-RSKS_0603_Reflow
footprint WRIS-RSKS_0603_Wave
pins: 1, 2

## 560112116099
designator R?, comment 249Ω
WRIS-RSKS Thick Film Resistor, size 0603, 249Ω, +/-1%, 100mW; Manufacturer Part Number: 560112116099; Manufacturer: Wurth Elektronik; Case/Size Code: 0603; Limiting Element Voltage: 75V; Temperature Coefficient of Resistance Min: -100ppm/°C; Temperature Coefficient of Resistance Max: 100ppm/°C; Category: Thick Film Resistors; Match Code: WRIS-RSKS; ComponentLink1Description: Website Link; ComponentLink1URL: https://www.we-online.com/redexpert/article/560112116099?ad; ComponentLink2Description: Datasheet Link; ComponentLink2URL: https://www.we-online.com/redexpert/spec/560112116099?ad; Mount: Surface Mount; Min Operating Temperature: -55°C; Max Operating Temperature: 155°C; Packaging: Tape and Reel; Length: 1.6mm; Width: 0.8mm; Height: 0.45mm; Rated Power: 100mW; Resistance: 249Ω; Resistance Tolerance: +/-1%
footprint WRIS-RSKS_0603_Reflow
footprint WRIS-RSKS_0603_Wave
pins: 1, 2

## 560112116100
designator R?, comment 332Ω
WRIS-RSKS Thick Film Resistor, size 0603, 332Ω, +/-1%, 100mW; Manufacturer Part Number: 560112116100; Manufacturer: Wurth Elektronik; Case/Size Code: 0603; Limiting Element Voltage: 75V; Temperature Coefficient of Resistance Min: -100ppm/°C; Temperature Coefficient of Resistance Max: 100ppm/°C; Category: Thick Film Resistors; Match Code: WRIS-RSKS; ComponentLink1Description: Website Link; ComponentLink1URL: https://www.we-online.com/redexpert/article/560112116100?ad; ComponentLink2Description: Datasheet Link; ComponentLink2URL: https://www.we-online.com/redexpert/spec/560112116100?ad; Mount: Surface Mount; Min Operating Temperature: -55°C; Max Operating Temperature: 155°C; Packaging: Tape and Reel; Length: 1.6mm; Width: 0.8mm; Height: 0.45mm; Rated Power: 100mW; Resistance: 332Ω; Resistance Tolerance: +/-1%
footprint WRIS-RSKS_0603_Reflow
footprint WRIS-RSKS_0603_Wave
pins: 1, 2

## 560112116101
designator R?, comment 750Ω
WRIS-RSKS Thick Film Resistor, size 0603, 750Ω, +/-1%, 100mW; Manufacturer Part Number: 560112116101; Manufacturer: Wurth Elektronik; Case/Size Code: 0603; Limiting Element Voltage: 75V; Temperature Coefficient of Resistance Min: -100ppm/°C; Temperature Coefficient of Resistance Max: 100ppm/°C; Category: Thick Film Resistors; Match Code: WRIS-RSKS; ComponentLink1Description: Website Link; ComponentLink1URL: https://www.we-online.com/redexpert/article/560112116101?ad; ComponentLink2Description: Datasheet Link; ComponentLink2URL: https://www.we-online.com/redexpert/spec/560112116101?ad; Mount: Surface Mount; Min Operating Temperature: -55°C; Max Operating Temperature: 155°C; Packaging: Tape and Reel; Length: 1.6mm; Width: 0.8mm; Height: 0.45mm; Rated Power: 100mW; Resistance: 750Ω; Resistance Tolerance: +/-1%
footprint WRIS-RSKS_0603_Reflow
footprint WRIS-RSKS_0603_Wave
pins: 1, 2

## 560112116102
designator R?, comment 2.21Ω
WRIS-RSKS Thick Film Resistor, size 0603, 2.21Ω, +/-1%, 100mW; Manufacturer Part Number: 560112116102; Manufacturer: Wurth Elektronik; Case/Size Code: 0603; Limiting Element Voltage: 75V; Temperature Coefficient of Resistance Min: -200ppm/°C; Temperature Coefficient of Resistance Max: 400ppm/°C; Category: Thick Film Resistors; Match Code: WRIS-RSKS; ComponentLink1Description: Website Link; ComponentLink1URL: https://www.we-online.com/redexpert/article/560112116102?ad; ComponentLink2Description: Datasheet Link; ComponentLink2URL: https://www.we-online.com/redexpert/spec/560112116102?ad; Mount: Surface Mount; Min Operating Temperature: -55°C; Max Operating Temperature: 155°C; Packaging: Tape and Reel; Length: 1.6mm; Width: 0.8mm; Height: 0.45mm; Rated Power: 100mW; Resistance: 2.21Ω; Resistance Tolerance: +/-1%
footprint WRIS-RSKS_0603_Reflow
footprint WRIS-RSKS_0603_Wave
pins: 1, 2

## 560112116103
designator R?, comment 6.8MΩ
WRIS-RSKS Thick Film Resistor, size 0603, 6.8MΩ, +/-1%, 100mW; Manufacturer Part Number: 560112116103; Manufacturer: Wurth Elektronik; Case/Size Code: 0603; Limiting Element Voltage: 75V; Temperature Coefficient of Resistance Min: -200ppm/°C; Temperature Coefficient of Resistance Max: 200ppm/°C; Category: Thick Film Resistors; Match Code: WRIS-RSKS; ComponentLink1Description: Website Link; ComponentLink1URL: https://www.we-online.com/redexpert/article/560112116103?ad; ComponentLink2Description: Datasheet Link; ComponentLink2URL: https://www.we-online.com/redexpert/spec/560112116103?ad; Mount: Surface Mount; Min Operating Temperature: -55°C; Max Operating Temperature: 155°C; Packaging: Tape and Reel; Length: 1.6mm; Width: 0.8mm; Height: 0.45mm; Rated Power: 100mW; Resistance: 6.8MΩ; Resistance Tolerance: +/-1%
footprint WRIS-RSKS_0603_Reflow
footprint WRIS-RSKS_0603_Wave
pins: 1, 2

## 560112116104
designator R?, comment 13kΩ
WRIS-RSKS Thick Film Resistor, size 0603, 13kΩ, +/-1%, 100mW; Manufacturer Part Number: 560112116104; Manufacturer: Wurth Elektronik; Case/Size Code: 0603; Limiting Element Voltage: 75V; Temperature Coefficient of Resistance Min: -100ppm/°C; Temperature Coefficient of Resistance Max: 100ppm/°C; Category: Thick Film Resistors; Match Code: WRIS-RSKS; ComponentLink1Description: Website Link; ComponentLink1URL: https://www.we-online.com/redexpert/article/560112116104?ad; ComponentLink2Description: Datasheet Link; ComponentLink2URL: https://www.we-online.com/redexpert/spec/560112116104?ad; Mount: Surface Mount; Min Operating Temperature: -55°C; Max Operating Temperature: 155°C; Packaging: Tape and Reel; Length: 1.6mm; Width: 0.8mm; Height: 0.45mm; Rated Power: 100mW; Resistance: 13kΩ; Resistance Tolerance: +/-1%
footprint WRIS-RSKS_0603_Reflow
footprint WRIS-RSKS_0603_Wave
pins: 1, 2

## 560112116105
designator R?, comment 15.4kΩ
WRIS-RSKS Thick Film Resistor, size 0603, 15.4kΩ, +/-1%, 100mW; Manufacturer Part Number: 560112116105; Manufacturer: Wurth Elektronik; Case/Size Code: 0603; Limiting Element Voltage: 75V; Temperature Coefficient of Resistance Min: -100ppm/°C; Temperature Coefficient of Resistance Max: 100ppm/°C; Category: Thick Film Resistors; Match Code: WRIS-RSKS; ComponentLink1Description: Website Link; ComponentLink1URL: https://www.we-online.com/redexpert/article/560112116105?ad; ComponentLink2Description: Datasheet Link; ComponentLink2URL: https://www.we-online.com/redexpert/spec/560112116105?ad; Mount: Surface Mount; Min Operating Temperature: -55°C; Max Operating Temperature: 155°C; Packaging: Tape and Reel; Length: 1.6mm; Width: 0.8mm; Height: 0.45mm; Rated Power: 100mW; Resistance: 15.4kΩ; Resistance Tolerance: +/-1%
footprint WRIS-RSKS_0603_Reflow
footprint WRIS-RSKS_0603_Wave
pins: 1, 2

## 560112116106
designator R?, comment 24kΩ
WRIS-RSKS Thick Film Resistor, size 0603, 24kΩ, +/-1%, 100mW; Manufacturer Part Number: 560112116106; Manufacturer: Wurth Elektronik; Case/Size Code: 0603; Limiting Element Voltage: 75V; Temperature Coefficient of Resistance Min: -100ppm/°C; Temperature Coefficient of Resistance Max: 100ppm/°C; Category: Thick Film Resistors; Match Code: WRIS-RSKS; ComponentLink1Description: Website Link; ComponentLink1URL: https://www.we-online.com/redexpert/article/560112116106?ad; ComponentLink2Description: Datasheet Link; ComponentLink2URL: https://www.we-online.com/redexpert/spec/560112116106?ad; Mount: Surface Mount; Min Operating Temperature: -55°C; Max Operating Temperature: 155°C; Packaging: Tape and Reel; Length: 1.6mm; Width: 0.8mm; Height: 0.45mm; Rated Power: 100mW; Resistance: 24kΩ; Resistance Tolerance: +/-1%
footprint WRIS-RSKS_0603_Reflow
footprint WRIS-RSKS_0603_Wave
pins: 1, 2

## 560112116107
designator R?, comment 30kΩ
WRIS-RSKS Thick Film Resistor, size 0603, 30kΩ, +/-1%, 100mW; Manufacturer Part Number: 560112116107; Manufacturer: Wurth Elektronik; Case/Size Code: 0603; Limiting Element Voltage: 75V; Temperature Coefficient of Resistance Min: -100ppm/°C; Temperature Coefficient of Resistance Max: 100ppm/°C; Category: Thick Film Resistors; Match Code: WRIS-RSKS; ComponentLink1Description: Website Link; ComponentLink1URL: https://www.we-online.com/redexpert/article/560112116107?ad; ComponentLink2Description: Datasheet Link; ComponentLink2URL: https://www.we-online.com/redexpert/spec/560112116107?ad; Mount: Surface Mount; Min Operating Temperature: -55°C; Max Operating Temperature: 155°C; Packaging: Tape and Reel; Length: 1.6mm; Width: 0.8mm; Height: 0.45mm; Rated Power: 100mW; Resistance: 30kΩ; Resistance Tolerance: +/-1%
footprint WRIS-RSKS_0603_Reflow
footprint WRIS-RSKS_0603_Wave
pins: 1, 2

## 560112116108
designator R?, comment 3.32kΩ
WRIS-RSKS Thick Film Resistor, size 0603, 3.32kΩ, +/-1%, 100mW; Manufacturer Part Number: 560112116108; Manufacturer: Wurth Elektronik; Case/Size Code: 0603; Limiting Element Voltage: 75V; Temperature Coefficient of Resistance Min: -100ppm/°C; Temperature Coefficient of Resistance Max: 100ppm/°C; Category: Thick Film Resistors; Match Code: WRIS-RSKS; ComponentLink1Description: Website Link; ComponentLink1URL: https://www.we-online.com/redexpert/article/560112116108?ad; ComponentLink2Description: Datasheet Link; ComponentLink2URL: https://www.we-online.com/redexpert/spec/560112116108?ad; Mount: Surface Mount; Min Operating Temperature: -55°C; Max Operating Temperature: 155°C; Packaging: Tape and Reel; Length: 1.6mm; Width: 0.8mm; Height: 0.45mm; Rated Power: 100mW; Resistance: 3.32kΩ; Resistance Tolerance: +/-1%
footprint WRIS-RSKS_0603_Reflow
footprint WRIS-RSKS_0603_Wave
pins: 1, 2

## 560112116109
designator R?, comment 33.2Ω
WRIS-RSKS Thick Film Resistor, size 0603, 33.2Ω, +/-1%, 100mW; Manufacturer Part Number: 560112116109; Manufacturer: Wurth Elektronik; Case/Size Code: 0603; Limiting Element Voltage: 75V; Temperature Coefficient of Resistance Min: -100ppm/°C; Temperature Coefficient of Resistance Max: 100ppm/°C; Category: Thick Film Resistors; Match Code: WRIS-RSKS; ComponentLink1Description: Website Link; ComponentLink1URL: https://www.we-online.com/redexpert/article/560112116109?ad; ComponentLink2Description: Datasheet Link; ComponentLink2URL: https://www.we-online.com/redexpert/spec/560112116109?ad; Mount: Surface Mount; Min Operating Temperature: -55°C; Max Operating Temperature: 155°C; Packaging: Tape and Reel; Length: 1.6mm; Width: 0.8mm; Height: 0.45mm; Rated Power: 100mW; Resistance: 33.2Ω; Resistance Tolerance: +/-1%
footprint WRIS-RSKS_0603_Reflow
footprint WRIS-RSKS_0603_Wave
pins: 1, 2

## 560112116110
designator R?, comment 39kΩ
WRIS-RSKS Thick Film Resistor, size 0603, 39kΩ, +/-1%, 100mW; Manufacturer Part Number: 560112116110; Manufacturer: Wurth Elektronik; Case/Size Code: 0603; Limiting Element Voltage: 75V; Temperature Coefficient of Resistance Min: -100ppm/°C; Temperature Coefficient of Resistance Max: 100ppm/°C; Category: Thick Film Resistors; Match Code: WRIS-RSKS; ComponentLink1Description: Website Link; ComponentLink1URL: https://www.we-online.com/redexpert/article/560112116110?ad; ComponentLink2Description: Datasheet Link; ComponentLink2URL: https://www.we-online.com/redexpert/spec/560112116110?ad; Mount: Surface Mount; Min Operating Temperature: -55°C; Max Operating Temperature: 155°C; Packaging: Tape and Reel; Length: 1.6mm; Width: 0.8mm; Height: 0.45mm; Rated Power: 100mW; Resistance: 39kΩ; Resistance Tolerance: +/-1%
footprint WRIS-RSKS_0603_Reflow
footprint WRIS-RSKS_0603_Wave
pins: 1, 2

## 560112116111
designator R?, comment 475Ω
WRIS-RSKS Thick Film Resistor, size 0603, 475Ω, +/-1%, 100mW; Manufacturer Part Number: 560112116111; Manufacturer: Wurth Elektronik; Case/Size Code: 0603; Limiting Element Voltage: 75V; Temperature Coefficient of Resistance Min: -100ppm/°C; Temperature Coefficient of Resistance Max: 100ppm/°C; Category: Thick Film Resistors; Match Code: WRIS-RSKS; ComponentLink1Description: Website Link; ComponentLink1URL: https://www.we-online.com/redexpert/article/560112116111?ad; ComponentLink2Description: Datasheet Link; ComponentLink2URL: https://www.we-online.com/redexpert/spec/560112116111?ad; Mount: Surface Mount; Min Operating Temperature: -55°C; Max Operating Temperature: 155°C; Packaging: Tape and Reel; Length: 1.6mm; Width: 0.8mm; Height: 0.45mm; Rated Power: 100mW; Resistance: 475Ω; Resistance Tolerance: +/-1%
footprint WRIS-RSKS_0603_Reflow
footprint WRIS-RSKS_0603_Wave
pins: 1, 2

## 560112116112
designator R?, comment 49.9kΩ
WRIS-RSKS Thick Film Resistor, size 0603, 49.9kΩ, +/-1%, 100mW; Manufacturer Part Number: 560112116112; Manufacturer: Wurth Elektronik; Case/Size Code: 0603; Limiting Element Voltage: 75V; Temperature Coefficient of Resistance Min: -100ppm/°C; Temperature Coefficient of Resistance Max: 100ppm/°C; Category: Thick Film Resistors; Match Code: WRIS-RSKS; ComponentLink1Description: Website Link; ComponentLink1URL: https://www.we-online.com/redexpert/article/560112116112?ad; ComponentLink2Description: Datasheet Link; ComponentLink2URL: https://www.we-online.com/redexpert/spec/560112116112?ad; Mount: Surface Mount; Min Operating Temperature: -55°C; Max Operating Temperature: 155°C; Packaging: Tape and Reel; Length: 1.6mm; Width: 0.8mm; Height: 0.45mm; Rated Power: 100mW; Resistance: 49.9kΩ; Resistance Tolerance: +/-1%
footprint WRIS-RSKS_0603_Reflow
footprint WRIS-RSKS_0603_Wave
pins: 1, 2

## 560112116113
designator R?, comment 56.2kΩ
WRIS-RSKS Thick Film Resistor, size 0603, 56.2kΩ, +/-1%, 100mW; Manufacturer Part Number: 560112116113; Manufacturer: Wurth Elektronik; Case/Size Code: 0603; Limiting Element Voltage: 75V; Temperature Coefficient of Resistance Min: -100ppm/°C; Temperature Coefficient of Resistance Max: 100ppm/°C; Category: Thick Film Resistors; Match Code: WRIS-RSKS; ComponentLink1Description: Website Link; ComponentLink1URL: https://www.we-online.com/redexpert/article/560112116113?ad; ComponentLink2Description: Datasheet Link; ComponentLink2URL: https://www.we-online.com/redexpert/spec/560112116113?ad; Mount: Surface Mount; Min Operating Temperature: -55°C; Max Operating Temperature: 155°C; Packaging: Tape and Reel; Length: 1.6mm; Width: 0.8mm; Height: 0.45mm; Rated Power: 100mW; Resistance: 56.2kΩ; Resistance Tolerance: +/-1%
footprint WRIS-RSKS_0603_Reflow
footprint WRIS-RSKS_0603_Wave
pins: 1, 2

## 560112116114
designator R?, comment 6.49kΩ
WRIS-RSKS Thick Film Resistor, size 0603, 6.49kΩ, +/-1%, 100mW; Manufacturer Part Number: 560112116114; Manufacturer: Wurth Elektronik; Case/Size Code: 0603; Limiting Element Voltage: 75V; Temperature Coefficient of Resistance Min: -100ppm/°C; Temperature Coefficient of Resistance Max: 100ppm/°C; Category: Thick Film Resistors; Match Code: WRIS-RSKS; ComponentLink1Description: Website Link; ComponentLink1URL: https://www.we-online.com/redexpert/article/560112116114?ad; ComponentLink2Description: Datasheet Link; ComponentLink2URL: https://www.we-online.com/redexpert/spec/560112116114?ad; Mount: Surface Mount; Min Operating Temperature: -55°C; Max Operating Temperature: 155°C; Packaging: Tape and Reel; Length: 1.6mm; Width: 0.8mm; Height: 0.45mm; Rated Power: 100mW; Resistance: 6.49kΩ; Resistance Tolerance: +/-1%
footprint WRIS-RSKS_0603_Reflow
footprint WRIS-RSKS_0603_Wave
pins: 1, 2

## 560112116115
designator R?, comment 681Ω
WRIS-RSKS Thick Film Resistor, size 0603, 681Ω, +/-1%, 100mW; Manufacturer Part Number: 560112116115; Manufacturer: Wurth Elektronik; Case/Size Code: 0603; Limiting Element Voltage: 75V; Temperature Coefficient of Resistance Min: -100ppm/°C; Temperature Coefficient of Resistance Max: 100ppm/°C; Category: Thick Film Resistors; Match Code: WRIS-RSKS; ComponentLink1Description: Website Link; ComponentLink1URL: https://www.we-online.com/redexpert/article/560112116115?ad; ComponentLink2Description: Datasheet Link; ComponentLink2URL: https://www.we-online.com/redexpert/spec/560112116115?ad; Mount: Surface Mount; Min Operating Temperature: -55°C; Max Operating Temperature: 155°C; Packaging: Tape and Reel; Length: 1.6mm; Width: 0.8mm; Height: 0.45mm; Rated Power: 100mW; Resistance: 681Ω; Resistance Tolerance: +/-1%
footprint WRIS-RSKS_0603_Reflow
footprint WRIS-RSKS_0603_Wave
pins: 1, 2